# Altium footprint library Transmitter.PcbLib: 18 footprints (part 2 of 2)
Each footprint in its own frame and in the unit in brackets; x right, y up, seen from the top. Pads: shape width x height; smd on the part's side, far side on the other; paste and mask are expansions set on the pad; w line width, h text height; cw(c..) or ccw(c..) is an arc to the next point about the centre after c.
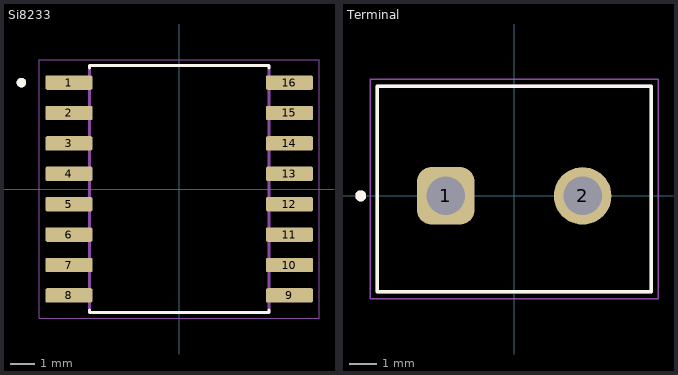
[diagram p1: the footprints below, top view; thin cyan lines are the x and y axes]

## Si8233 [mm]
pads (16):
  rrect25% 1.97x0.6 smd: 1(-4.605,4.445) 2(-4.605,3.175) 3(-4.605,1.905) 4(-4.605,0.635) 5(-4.605,-0.635) 6(-4.605,-1.905) 7(-4.605,-3.175) 8(-4.605,-4.445) 9(4.605,-4.445) 10(4.605,-3.175) 11(4.605,-1.905) 12(4.605,-0.635) 13(4.605,0.635) 14(4.605,1.905) 15(4.605,3.175) 16(4.605,4.445)
Top Overlay:
  circle w0.2: c-6.59,4.445 r0.1
  lines w0.127: -3.75,-5.065 -3.75,-5.15 3.75,-5.15 3.75,-5.065 ; -3.75,5.065 -3.75,5.15 3.75,5.15 3.75,5.065
Mechanical 13:
  circle w0.2: c-6.59,4.445 r0.1
  lines w0.127: -3.75,-5.15 -3.75,5.15 3.75,5.15 3.75,-5.15 -3.75,-5.15
Mechanical 15:
  lines w0.05: -5.84,-5.4 5.84,-5.4 5.84,5.4 -5.84,5.4 -5.84,-5.4
3D body "SI8233BD-C-IS.STEP": height 2.65, standoff 0, extent -5.15,-5.15 5.15,5.15

## Terminal [mm]
pads (2):
  rrect50% 2.1x2.1 hole 1.4: 1(-2.5,0)
  round 2.1 hole 1.4: 2(2.5,0)
Top Overlay:
  circle w0.2: c-5.6,0 r0.1
  lines w0.127: -5,-3.5 5,-3.5 5,4 -5,4 -5,-3.5
Mechanical 13:
  circle w0.2: c-5.6,0 r0.1
  lines w0.127: -5,-3.5 -5,4 5,4 5,-3.5 -5,-3.5
Mechanical 15:
  lines w0.05: -5.25,-3.75 -5.25,4.25 5.25,4.25 5.25,-3.75 -5.25,-3.75
3D body "KF301-2P--3DModel-STEP-510211.STEP": height 10, standoff -4.5, extent -5.681,-3.182 4.919,4.318